# Altium footprint library BGA200NP65_12X22_1500X1000X100B35N.PcbLib: 1 footprints
Each footprint in its own frame and in the unit in brackets; x right, y up, seen from the top. Pads: shape width x height; smd on the part's side, far side on the other; paste and mask are expansions set on the pad; w line width, h text height; cw(c..) or ccw(c..) is an arc to the next point about the centre after c.
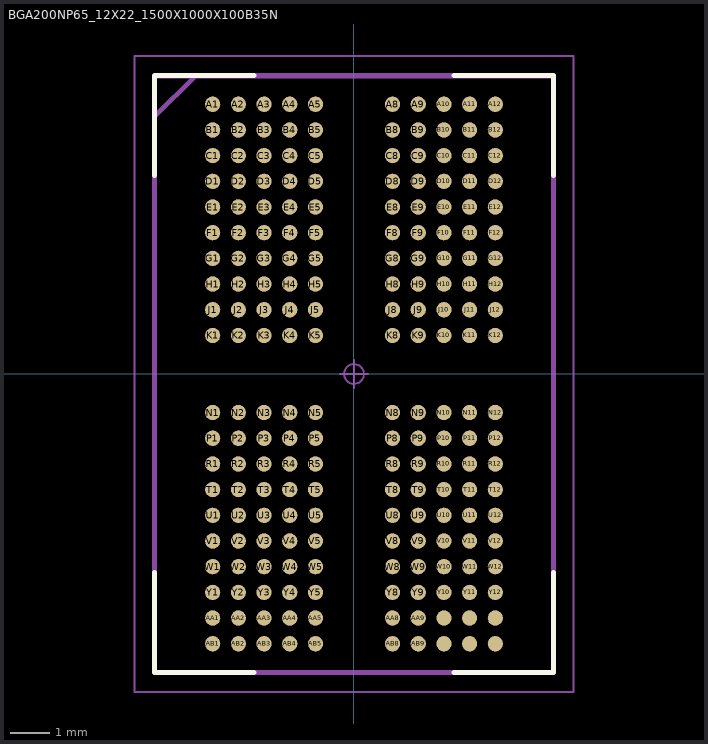
[diagram p0: the footprint, top view; thin cyan lines are the x and y axes]

## BGA200NP65_12X22_1500X1000X100B35N [mm] "Ball Grid Array (BGA), 0.65 mm pitch, rect; 200 pin, 15.00 mm L X 10.00 mm W X 1.00 mm H Body"
height 1
pads (200):
  round 0.385 smd paste-0.192: A1(-3.575,6.825) A2(-2.925,6.825) A3(-2.275,6.825) A4(-1.625,6.825) A5(-0.975,6.825) A8(0.975,6.825) A9(1.625,6.825) A10(2.275,6.825) A11(2.925,6.825) A12(3.575,6.825) AA1(-3.575,-6.175) AA2(-2.925,-6.175) AA3(-2.275,-6.175) AA4(-1.625,-6.175) AA5(-0.975,-6.175) AA8(0.975,-6.175) AA9(1.625,-6.175) AA10(2.275,-6.175) AA11(2.925,-6.175) AA12(3.575,-6.175) AB1(-3.575,-6.825) AB2(-2.925,-6.825) AB3(-2.275,-6.825) AB4(-1.625,-6.825) AB5(-0.975,-6.825) AB8(0.975,-6.825) AB9(1.625,-6.825) AB10(2.275,-6.825) AB11(2.925,-6.825) AB12(3.575,-6.825) B1(-3.575,6.175) B2(-2.925,6.175) B3(-2.275,6.175) B4(-1.625,6.175) B5(-0.975,6.175) B8(0.975,6.175) B9(1.625,6.175) B10(2.275,6.175) B11(2.925,6.175) B12(3.575,6.175) C1(-3.575,5.525) C2(-2.925,5.525) C3(-2.275,5.525) C4(-1.625,5.525) C5(-0.975,5.525) C8(0.975,5.525) C9(1.625,5.525) C10(2.275,5.525) C11(2.925,5.525) C12(3.575,5.525) D1(-3.575,4.875) D2(-2.925,4.875) D3(-2.275,4.875) D4(-1.625,4.875) D5(-0.975,4.875) D8(0.975,4.875) D9(1.625,4.875) D10(2.275,4.875) D11(2.925,4.875) D12(3.575,4.875) E1(-3.575,4.225) E2(-2.925,4.225) E3(-2.275,4.225) E4(-1.625,4.225) E5(-0.975,4.225) E8(0.975,4.225) E9(1.625,4.225) E10(2.275,4.225) E11(2.925,4.225) E12(3.575,4.225) F1(-3.575,3.575) F2(-2.925,3.575) F3(-2.275,3.575) F4(-1.625,3.575) F5(-0.975,3.575) F8(0.975,3.575) F9(1.625,3.575) F10(2.275,3.575) F11(2.925,3.575) F12(3.575,3.575) G1(-3.575,2.925) G2(-2.925,2.925) G3(-2.275,2.925) G4(-1.625,2.925) G5(-0.975,2.925) G8(0.975,2.925) G9(1.625,2.925) G10(2.275,2.925) G11(2.925,2.925) G12(3.575,2.925) H1(-3.575,2.275) H2(-2.925,2.275) H3(-2.275,2.275) H4(-1.625,2.275) H5(-0.975,2.275) H8(0.975,2.275) H9(1.625,2.275) H10(2.275,2.275) H11(2.925,2.275) H12(3.575,2.275) J1(-3.575,1.625) J2(-2.925,1.625) J3(-2.275,1.625) J4(-1.625,1.625) J5(-0.975,1.625) J8(0.975,1.625) J9(1.625,1.625) J10(2.275,1.625) J11(2.925,1.625) J12(3.575,1.625) K1(-3.575,0.975) K2(-2.925,0.975) K3(-2.275,0.975) K4(-1.625,0.975) K5(-0.975,0.975) K8(0.975,0.975) K9(1.625,0.975) K10(2.275,0.975) K11(2.925,0.975) K12(3.575,0.975) N1(-3.575,-0.975) N2(-2.925,-0.975) N3(-2.275,-0.975) N4(-1.625,-0.975) N5(-0.975,-0.975) N8(0.975,-0.975) N9(1.625,-0.975) N10(2.275,-0.975) N11(2.925,-0.975) N12(3.575,-0.975) P1(-3.575,-1.625) P2(-2.925,-1.625) P3(-2.275,-1.625) P4(-1.625,-1.625) P5(-0.975,-1.625) P8(0.975,-1.625) P9(1.625,-1.625) P10(2.275,-1.625) P11(2.925,-1.625) P12(3.575,-1.625) R1(-3.575,-2.275) R2(-2.925,-2.275) R3(-2.275,-2.275) R4(-1.625,-2.275) R5(-0.975,-2.275) R8(0.975,-2.275) R9(1.625,-2.275) R10(2.275,-2.275) R11(2.925,-2.275) R12(3.575,-2.275) T1(-3.575,-2.925) T2(-2.925,-2.925) T3(-2.275,-2.925) T4(-1.625,-2.925) T5(-0.975,-2.925) T8(0.975,-2.925) T9(1.625,-2.925) T10(2.275,-2.925) T11(2.925,-2.925) T12(3.575,-2.925) U1(-3.575,-3.575) U2(-2.925,-3.575) U3(-2.275,-3.575) U4(-1.625,-3.575) U5(-0.975,-3.575) U8(0.975,-3.575) U9(1.625,-3.575) U10(2.275,-3.575) U11(2.925,-3.575) U12(3.575,-3.575) V1(-3.575,-4.225) V2(-2.925,-4.225) V3(-2.275,-4.225) V4(-1.625,-4.225) V5(-0.975,-4.225) V8(0.975,-4.225) V9(1.625,-4.225) V10(2.275,-4.225) V11(2.925,-4.225) V12(3.575,-4.225) W1(-3.575,-4.875) W2(-2.925,-4.875) W3(-2.275,-4.875) W4(-1.625,-4.875) W5(-0.975,-4.875) W8(0.975,-4.875) W9(1.625,-4.875) W10(2.275,-4.875) W11(2.925,-4.875) W12(3.575,-4.875) Y1(-3.575,-5.525) Y2(-2.925,-5.525) Y3(-2.275,-5.525) Y4(-1.625,-5.525) Y5(-0.975,-5.525) Y8(0.975,-5.525) Y9(1.625,-5.525) Y10(2.275,-5.525) Y11(2.925,-5.525) Y12(3.575,-5.525)
Top Overlay:
  lines w0.12: -5.05,-5.025 -5.05,-7.55 -2.525,-7.55 ; -5.05,5.025 -5.05,7.55 -2.525,7.55 ; 2.525,-7.55 5.05,-7.55 5.05,-5.025 ; 2.525,7.55 5.05,7.55 5.05,5.025
Mechanical 3:
  lines w0.12: -5.05,-7.55 -5.05,6.507 -4.007,7.55 5.05,7.55 5.05,-7.55 -5.05,-7.55
Mechanical 5:
  drawing of 204 lines, arcs and shapes, not listed
Mechanical 7:
  circle w0.05: c0,0 r0.25
  lines w0.05: -0.35,0 0.35,0 ; 0,-0.35 0,0.35 ; -5.55,-8.05 5.55,-8.05 5.55,8.05 -5.55,8.05 -5.55,-8.05
Mechanical 9:
  text "'.Designator'" at -5.817,-0.398 h1.02
3D body "BGA200NP65_12X22_1500X1000X100B35.STEP": height 1, standoff 0, extent -5,-7.5 5,7.5
3D body: height 1, standoff 0, extent -5.55,-8.05 5.55,8.05